# Altium footprint library ALTIUM_{TEX139}_HV-1PH-DCAC-R3.PcbLib: 57 footprints (part 1 of 4)
Each footprint in its own frame and in the unit in brackets; x right, y up, seen from the top. Pads: shape width x height; smd on the part's side, far side on the other; paste and mask are expansions set on the pad; w line width, h text height; cw(c..) or ccw(c..) is an arc to the next point about the centre after c.
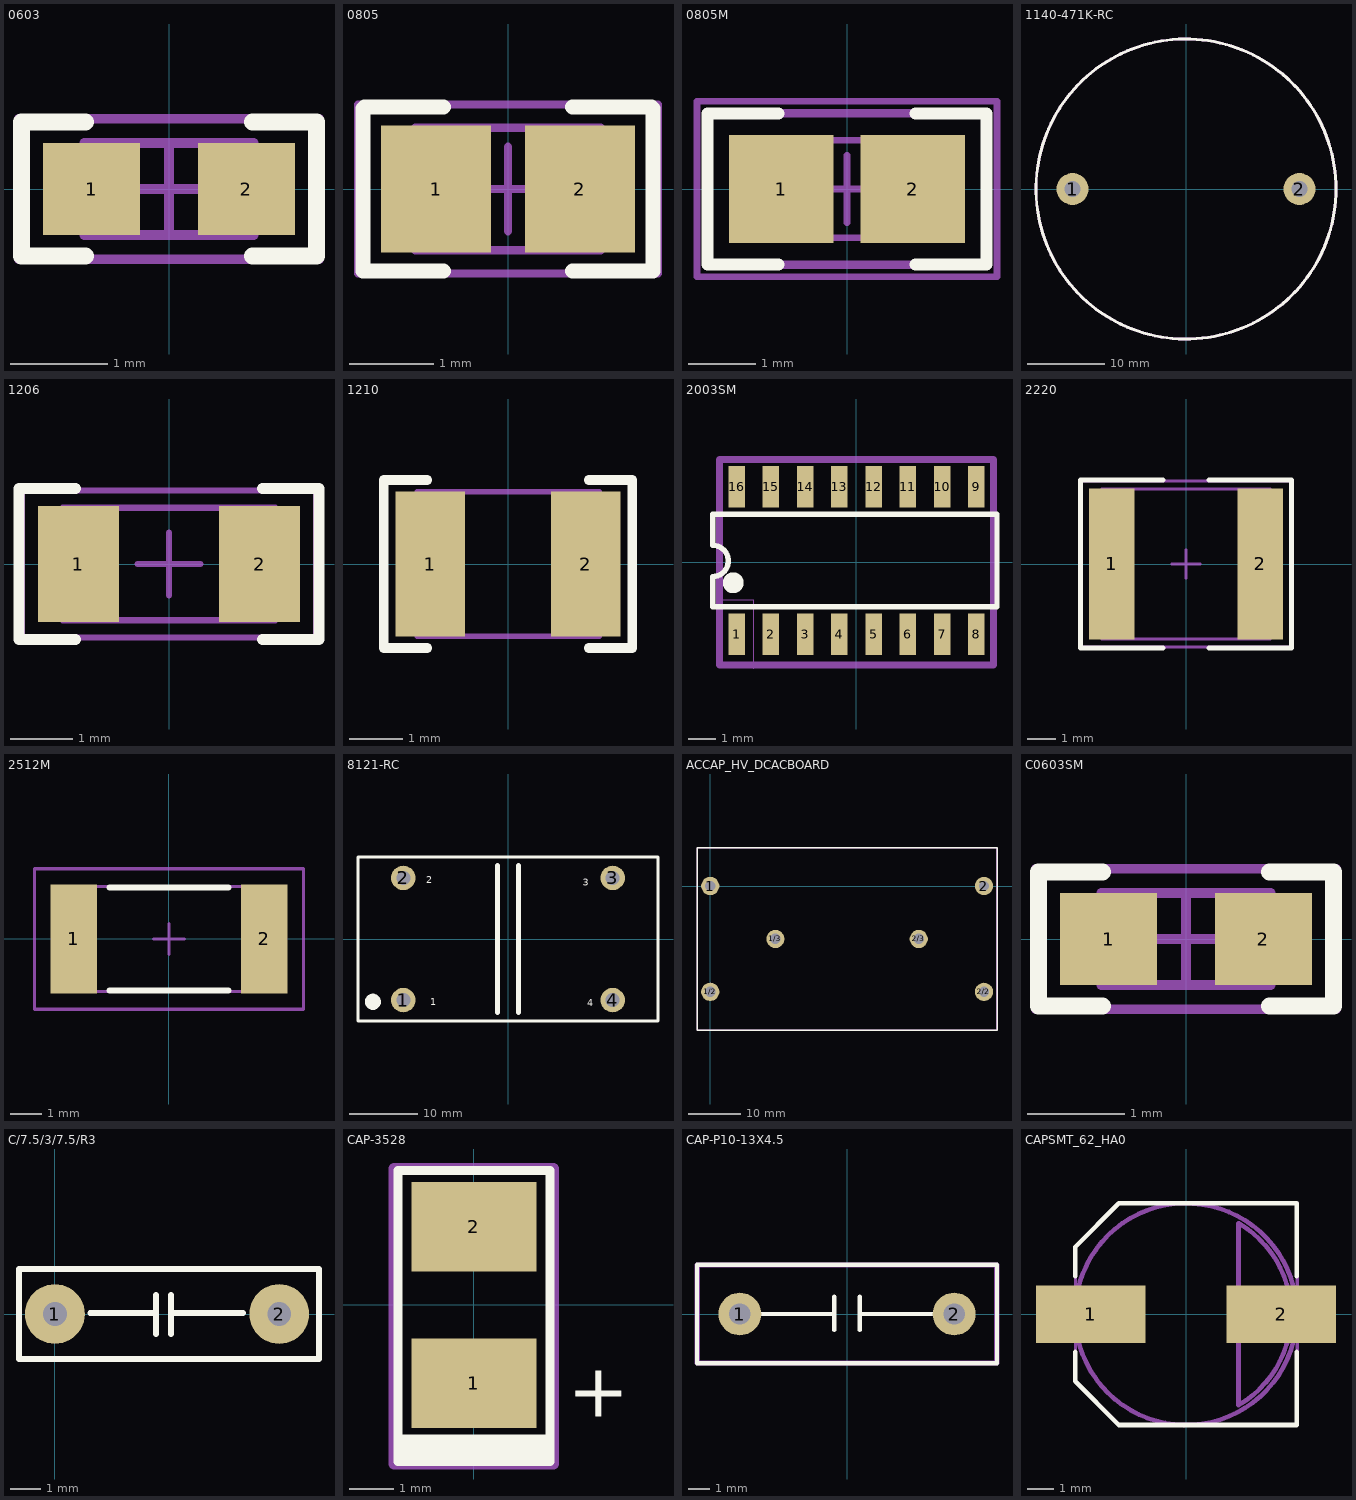
[diagram p0: the footprints below, top view; thin cyan lines are the x and y axes]

## 0603 [mm] "0603 from SM-752 data"
height 0.85
pads (2):
  rect 1x0.95 smd: 1(-0.8,0) 2(0.8,0)
Top Overlay:
  lines w0.178: -0.864,-0.691 -1.524,-0.691 -1.524,0.693 -0.864,0.693 ; 0.864,-0.691 1.524,-0.691 1.524,0.693 0.864,0.693
Mechanical 5:
  lines w0.1: -1.55,-0.725 -1.55,0.725 1.55,0.725 1.55,-0.725 -1.55,-0.725
  text ".Designator" at -1.016,-0.381 h0.76
Mechanical 13:
  lines w0.1: -0.55,-0.475 -0.55,0.475 ; 0.55,-0.475 0.55,0.475 ; -0.875,-0.475 0.875,-0.475 0.875,0.475 -0.875,0.475 -0.875,-0.475
Mechanical 15:
  lines w0.1: -0.475,0 0.475,0 ; 0,-0.475 0,0.475 ; -1.55,-0.725 1.55,-0.725 1.55,0.725 -1.55,0.725 -1.55,-0.725
3D body: height 0.85, standoff 0, extent -0.874,-0.474 -0.551,0.474
3D body: height 0.85, standoff 0, extent -0.549,-0.474 0.549,0.474
3D body: height 0.85, standoff 0, extent 0.551,-0.474 0.874,0.474

## 0805 [mm] "0805 from SM-752 data"
height 1.1
pads (2):
  rect 1.3x1.5 smd: 1(-0.85,0) 2(0.85,0)
Top Overlay:
  lines w0.178: -0.762,-0.968 -1.717,-0.968 -1.717,0.95 -1.699,0.968 -0.762,0.968 ; 0.762,-0.968 1.717,-0.968 1.717,0.95 1.699,0.968 0.762,0.968
Mechanical 5:
  lines w0.1: -1.775,-1 1.775,-1 1.775,1 -1.775,1 -1.775,-1
  text ".Designator" at -1.016,-0.381 h0.81
Mechanical 13:
  lines w0.1: -0.65,-0.725 -0.65,0.725 ; 0.65,-0.725 0.65,0.725 ; -1.1,-0.725 1.1,-0.725 1.1,0.725 -1.1,0.725 -1.1,-0.725
Mechanical 15:
  lines w0.1: -0.5,0 0.5,0 ; 0,-0.5 0,0.5 ; -1.775,-1 1.775,-1 1.775,1 -1.775,1 -1.775,-1
3D body: height 1.1, standoff 0, extent -1.099,-0.724 -0.651,0.724
3D body: height 1.1, standoff 0, extent -0.649,-0.724 0.649,0.724
3D body: height 1.1, standoff 0, extent 0.651,-0.724 1.099,0.724

## 0805M [mm] "0805 from SM-752 data"
height 1.1
pads (2):
  rect 1.55x1.6 smd: 1(-0.975,0) 2(0.975,0)
Top Overlay:
  lines w0.178: -1.016,-1.118 -2.068,-1.118 -2.068,1.118 -1.016,1.118 ; 1.016,-1.118 2.068,-1.118 2.068,1.118 1.016,1.118
Mechanical 5:
  lines w0.127: -2.075,-1.125 -2.075,1.125 2.075,1.125 2.075,-1.125 -2.075,-1.125
  text ".Designator" at 1.397,0.508 h1.02
Mechanical 13:
  lines w0.1: -0.65,-0.725 -0.65,0.725 ; 0.65,-0.725 0.65,0.725 ; -1.1,-0.725 1.1,-0.725 1.1,0.725 -1.1,0.725 -1.1,-0.725
Mechanical 15:
  lines w0.1: -0.5,0 0.5,0 ; 0,-0.5 0,0.5 ; -2.225,-1.3 2.225,-1.3 2.225,1.3 -2.225,1.3 -2.225,-1.3
3D body: height 1.1, standoff 0, extent -1.099,-0.724 -0.651,0.724
3D body: height 1.1, standoff 0, extent -0.649,-0.724 0.649,0.724
3D body: height 1.1, standoff 0, extent 0.651,-0.724 1.099,0.724

## 1140-471K-RC [mm]
height 26.162
pads (2):
  round 4.1 hole 2: 1(-14.605,0) 2(14.605,0)
Top Overlay:
  circle w0.381: c0,0 r19.304
Mechanical 5:
  circle w0.381: c0,0 r19.304
  text ".Designator" at 0,-3.734 h1.52

## 1206 [mm] "1206 from SM-752 data"
height 1.35
pads (2):
  rect 1.3x1.85 smd: 1(-1.45,0) 2(1.45,0)
Top Overlay:
  lines w0.178: -1.5,-1.21 -2.4,-1.21 -2.4,1.21 -1.5,1.21 ; 1.5,-1.21 2.4,-1.21 2.4,1.21 1.5,1.21
Mechanical 5:
  lines w0.1: -1.7,-0.9 1.7,-0.9 1.7,0.9 -1.7,0.9 -1.7,-0.9
  text ".Designator" at 0.635,0.508 h0.81
Mechanical 13:
  lines w0.1: -1.2,-0.9 -1.2,0.9 ; 1.2,-0.9 1.2,0.9 ; -1.7,-0.9 1.7,-0.9 1.7,0.9 -1.7,0.9 -1.7,-0.9
Mechanical 15:
  lines w0.1: -0.5,0 0.5,0 ; 0,-0.5 0,0.5 ; -2.35,-1.175 2.35,-1.175 2.35,1.175 -2.35,1.175 -2.35,-1.175
3D body: height 1.35, standoff 0, extent -1.699,-0.899 -1.201,0.899
3D body: height 1.35, standoff 0, extent -1.199,-0.899 1.199,0.899
3D body: height 1.35, standoff 0, extent 1.201,-0.899 1.699,0.899

## 1210 [mm] "1210 from SM-752 data"
height 1.35
pads (2):
  rect 1.3x2.7 smd: 1(-1.45,0) 2(1.45,0)
Top Overlay:
  lines w0.178: -1.511,-1.568 -2.316,-1.568 -2.316,1.568 -1.511,1.568 ; 1.511,-1.568 2.316,-1.568 2.316,1.568 1.511,1.568
Mechanical 1:
  lines w0.1: -1.7,-1.35 -1.7,1.35 ; 1.7,-1.35 1.7,1.35
Mechanical 9:
  lines w0.1: -1.7,-1.35 1.7,-1.35 1.7,1.35 -1.7,1.35 -1.7,-1.35
  text ".Designator" at 0.737,0.508 h1.02
Mechanical 13:
  lines w0.1: -1.7,-1.35 1.7,-1.35 ; -1.7,1.35 1.7,1.35 ; -1.2,-1.35 -1.2,1.35 ; 1.2,-1.35 1.2,1.35
  text ".Designator" at -1.4,-0.375 h0.76
3D body: height 1.35, standoff 0, extent -1.699,-1.349 -1.201,1.349
3D body: height 1.35, standoff 0, extent -1.199,-1.349 1.199,1.349
3D body: height 1.35, standoff 0, extent 1.201,-1.349 1.699,1.349

## 2003SM [mm]
pads (16):
  rect 0.61x1.53 smd: 1(-4.445,-2.665) 2(-3.175,-2.665) 3(-1.905,-2.665) 4(-0.635,-2.665) 5(0.635,-2.665) 6(1.905,-2.665) 7(3.175,-2.665) 8(4.445,-2.665) 9(4.445,2.795) 10(3.175,2.795) 11(1.905,2.795) 12(0.635,2.795) 13(-0.635,2.795) 14(-1.905,2.795) 15(-3.175,2.795) 16(-4.445,2.795)
Top Overlay:
  circle w0.51: c-4.57,-0.76 r0.13
  lines w0.2: -5.33,0.63 cw(c-5.33,0.05) -5.33,-0.53 -5.33,-1.65 -4.7,-1.65 5.21,-1.65 5.21,1.78 -5.33,1.78 -5.33,0.64
Mechanical 5:
  lines w0: -5.08,-1.397 -3.81,-1.397 -3.81,-3.937 -3.81,-3.81
  lines w0.254: -5.08,-3.81 -5.08,3.81 5.08,3.81 5.08,-3.81 -5.08,-3.81
  text ".Designator" at -1.036,-0.508 h1.52

## 2220 [mm] "Chip Capacitor, Body 5.7x5.0mm, IPC Medium Density"
height 1.35
pads (2):
  rect 1.6x5.3 smd: 1(-2.6,0) 2(2.6,0)
Top Overlay:
  lines w0.178: -0.811,-2.939 -3.693,-2.939 -3.693,2.939 -0.811,2.939 ; 0.811,-2.939 3.693,-2.939 3.693,2.939 0.811,2.939
Mechanical 5:
  lines w0.1: -2.95,-2.625 -2.95,2.625 2.95,2.625 2.95,-2.625 -2.95,-2.625
  text ".Designator" at -0.889,-0.508 h1.02
Mechanical 13:
  lines w0.1: -2.75,-2.625 -2.75,2.625 ; 2.75,-2.625 2.75,2.625 ; -2.95,-2.625 2.95,-2.625 2.95,2.625 -2.95,2.625 -2.95,-2.625
Mechanical 15:
  lines w0.1: -0.5,0 0.5,0 ; 0,-0.5 0,0.5 ; -3.65,-2.9 3.65,-2.9 3.65,2.9 -3.65,2.9 -3.65,-2.9
3D body: height 1.35, standoff 0, extent 2.751,-2.624 2.949,2.624
3D body: height 1.35, standoff 0, extent -2.749,-2.624 2.749,2.624
3D body: height 1.35, standoff 0, extent -2.949,-2.624 -2.751,2.624

## 2512M [mm] "Chip Resistor, Body 6.3x3.2mm, IPC Low Density"
height 0.71
pads (2):
  rect 1.5x3.5 smd: 1(-3.05,0) 2(3.05,0)
Top Overlay:
  lines w0.2: -1.9,-1.65 1.9,-1.65 ; -1.9,1.65 1.9,1.65
Mechanical 5:
  lines w0.1: -3.225,-1.675 3.225,-1.675 3.225,1.675 -3.225,1.675 -3.225,-1.675
  text ".Designator" at -1.778,-0.635 h1.02
Mechanical 13:
  lines w0.1: -2.463,-1.675 -2.463,1.675 ; 2.463,-1.675 2.463,1.675 ; -3.225,-1.675 3.225,-1.675 3.225,1.675 -3.225,1.675 -3.225,-1.675
Mechanical 15:
  lines w0.1: -0.5,0 0.5,0 ; 0,-0.5 0,0.5 ; -4.3,-2.25 4.3,-2.25 4.3,2.25 -4.3,2.25 -4.3,-2.25
3D body: height 0.71, standoff 0, extent -3.224,-1.674 -2.464,1.674
3D body: height 0.71, standoff 0, extent -2.462,-1.674 2.462,1.674
3D body: height 0.71, standoff 0, extent 2.464,-1.674 3.224,1.674

## 8121-RC [mil]
height 1650
pads (4):
  round 140 hole 80: 1(-600,-350) 2(-600,350) 3(600,350) 4(600,-350)
Top Overlay:
  circle w50: c-775,-360 r21.21
  lines w15: -860,-470 -860,470 860,470 860,-470 -860,-470
  lines w30: -60,-420 -60,420 ; 60,-420 60,420
  text "1" at -445,-380 h40
  text "2" at -470,320 h40
  text "3" at 430,305 h40
  text "4" at 455,-385 h40
Mechanical 5:
  lines w10: -860,-470 860,-470 860,470 -855,470 -860,465 -860,-470
  text "1" at -500,-385 h60
  text ".Designator" at -225,-30 h60

## ACCAP_HV_DCACBOARD [mm]
pads (6):
  round 3.5 hole 2: 1(0,0) 1/2(0,-20.3) 1/3(12.5,-10.15) 2(52.5,0) 2/2(52.5,-20.3) 2/3(40,-10.15)
Top Overlay:
  lines w0.254: -2.5,-27.65 -2.5,7.35 55,7.35 55,-27.416 55,-27.65 -2.5,-27.65
Mechanical 5:
  lines w0.254: -2.54,-27.686 54.991,-27.686 54.991,7.366 -2.413,7.366 -2.54,7.239 -2.54,-27.686
  text ".Designator" at 26.267,-10.658 h1.52

## C0603SM [mm] "0603 from SM-752 data"
height 0.85
pads (2):
  rect 1x0.95 smd: 1(-0.8,0) 2(0.8,0)
Top Overlay:
  lines w0.178: -0.864,-0.691 -1.524,-0.691 -1.524,0.693 -0.864,0.693 ; 0.864,-0.691 1.524,-0.691 1.524,0.693 0.864,0.693
Mechanical 5:
  lines w0.1: -1.55,-0.725 1.55,-0.725 1.55,0.725 -1.55,0.725 -1.55,-0.725
  text ".Designator" at -1.016,-0.381 h0.76
Mechanical 13:
  lines w0.1: -0.55,-0.475 -0.55,0.475 ; 0.55,-0.475 0.55,0.475 ; -0.875,-0.475 -0.875,0.475 0.875,0.475 0.875,-0.475 -0.875,-0.475
Mechanical 15:
  lines w0.1: -0.475,0 0.475,0 ; 0,-0.475 0,0.475 ; -1.55,-0.725 -1.55,0.725 1.55,0.725 1.55,-0.725 -1.55,-0.725
3D body: height 0.85, standoff 0, extent 0.551,-0.474 0.874,0.474
3D body: height 0.85, standoff 0, extent -0.549,-0.474 0.549,0.474
3D body: height 0.85, standoff 0, extent -0.874,-0.474 -0.551,0.474

## C/7.5/3/7.5/R3 [mm]
pads (2):
  round 2 hole 0.8: 1(0,0) 2(7.5,0)
Top Overlay:
  lines w0.2: 1.182,0.032 3.382,0.032 ; 3.382,-0.668 3.382,0.632 ; 3.882,-0.668 3.882,0.632 ; 3.882,0.032 6.282,0.032 ; -1.2,-1.5 -1.2,1.5 8.829,1.5 8.829,-1.5 -1.2,-1.5

## CAP-3528 [mm]
pads (2):
  rect 2.8x2 smd: 1(0,-1.75) 2(0,1.75)
Top Overlay:
  rectangle: -1.7,-3.5 1.7,-3
  lines w0.2: -1.7,-3 -1.7,3 1.7,3 1.7,-3 ; -1.7,-3 1.7,-3 ; -1.7,-3 -1.7,-3.5 1.7,-3.5 1.7,-3
  text "+" at 2.1,-2.5 h1.2
Mechanical 5:
  lines w0.254: -1.778,-3.048 1.778,-3.048 ; -1.778,-3.556 1.778,-3.556 1.778,3.048 -1.778,3.048 -1.778,-3.556
  text ".Designator" at -0.889,2.032 h1.52

## CAP-P10-13X4.5 [mm]
pads (2):
  round 2 hole 1: 1(-5,0) 2(5,0)
Top Overlay:
  lines w0.2: -5,0 -0.6,0 ; -0.6,-0.75 -0.6,0.8 ; 0.6,-0.75 0.6,0.8 ; 0.6,0 5,0 ; -7,-2.3 7,-2.3 7,2.3 -7,2.3 -7,-2.3
Mechanical 5:
  lines w0.254: -6.985,-2.286 -6.985,2.286 6.985,2.286 6.985,-2.286 -6.985,-2.286
  text ".Designator" at -1.778,-0.508 h1.52

## CAPSMT_62_HA0 [mm] "8 x 10mm:  Chemi-Con HA0"
height 10.5
pads (2):
  rect 4.2x2.2 smd: 1(-3.65,0) 2(3.65,0)
Top Overlay:
  lines w0.178: -4.25,-1.45 -4.25,-2.575 -2.575,-4.25 0,-4.25 4.25,-4.25 4.25,-1.45 ; -4.25,1.45 -4.25,2.575 -2.575,4.25 0,4.25 4.25,4.25 4.25,1.45
Mechanical 5:
  lines w0.127: -4.238,-2.563 -2.563,-4.238 0.012,-4.238 4.262,-4.238 4.262,4.262 0.012,4.262 -2.563,4.262 -4.238,2.587 -4.238,-2.563
  text ".Designator" at 1.397,0.508 h1.02
Mechanical 13:
  circle w0.178: c0,0 r4.25
  lines w0.178: 2.013,-3.486 ccw(c0,0) 2.013,3.486 2.013,-3.486
3D body: height 10.5, standoff 10.4, extent 2.012,-3.486 4.026,3.487
3D body: height 10.5, standoff 1, extent -4.249,-4.249 4.249,4.249
3D body: height 1, standoff 0, extent -4.251,-4.251 4.251,4.251